# Altium footprint library SGK_DVR_01.PcbLib: 37 footprints (part 3 of 3)
Each footprint in its own frame and in the unit in brackets; x right, y up, seen from the top. Pads: shape width x height; smd on the part's side, far side on the other; paste and mask are expansions set on the pad; w line width, h text height; cw(c..) or ccw(c..) is an arc to the next point about the centre after c.
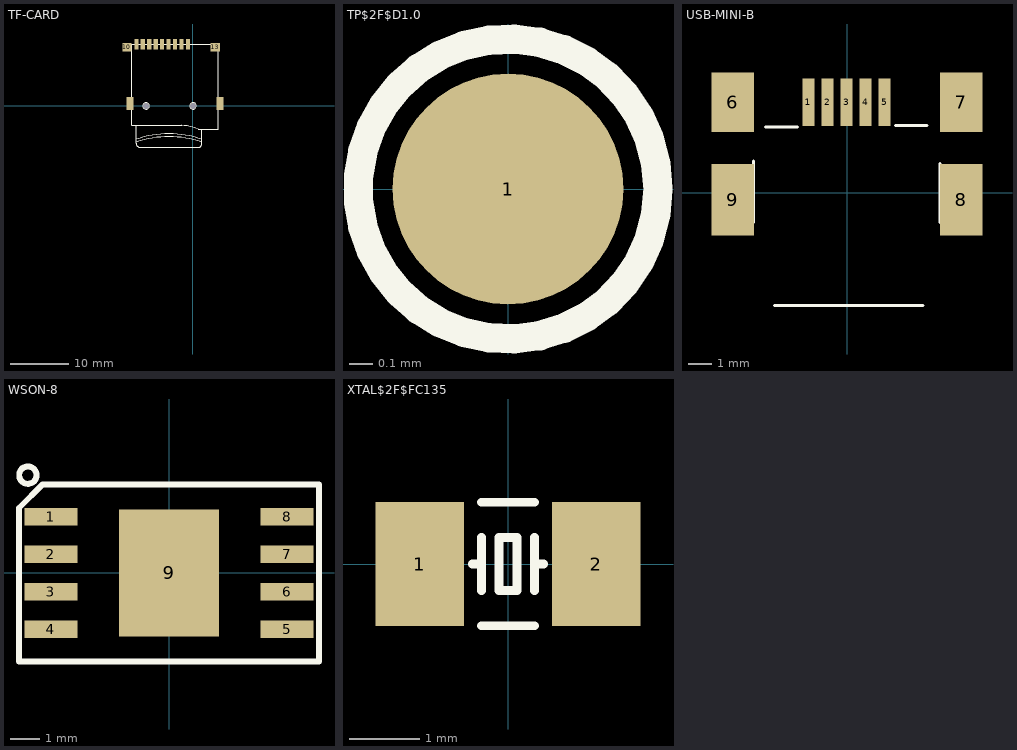
[diagram p2: the footprints below, top view; thin cyan lines are the x and y axes]

## TF-CARD [mm]
pads (15):
  rect 0.7x1.8 smd: 1(-0.85,10.5) 2(-1.95,10.5) 3(-3.05,10.5) 4(-4.15,10.5) 5(-5.25,10.5) 6(-6.35,10.5) 7(-7.45,10.5) 8(-8.55,10.5) 9(-9.65,10.5)
  rect 1.6x1.4 smd: 10(-11.25,10) 13(3.8,10)
  rect 1.2x2.2 smd: 11(-10.7,0.4) 12(4.6,0.4)
  round 1 hole 1: 14(0,0) 15(-8,0)
Top Overlay:
  circle w0.05: c-8,-0.01 r0.539
  circle w0.05: c0,0 r0.546
  lines w0.15: -10.4,10.51 -10.4,-3.3 -1.94,-3.3 ; -10.39,10.53 4.3,10.53 4.3,8.84 ; -9.664,-5.705 cw(c-4.09,-21.533) 1.456,-5.695 ; -9.65,-6.4 ccw(c-9.044,-6.454) -8.99,-7.06 ; -9.65,-6.38 -9.65,-3.3 ; -9.64,-6.17 cw(c-4.085,-22.488) 1.47,-6.17 ; -8.97,-7.06 0.81,-7.06 ; -1.942,-3.3 cw(c-2.478,-11.818) 0.898,-3.979 ; 0.825,-7.055 ccw(c0.921,-6.496) 1.48,-6.4 ; 0.92,-3.98 4.28,-3.98 ; 1.48,-6.38 1.48,-3.98 ; 4.3,-3.98 4.3,10.51

## TP$2F$D1.0 [mm]
pads (1):
  round 1 smd: 1(0,0)
Top Overlay:
  circle w0.127: c0,0 r0.65

## USB-MINI-B [mm]
pads (9):
  rect 0.5x2 smd: 1(-1.617,3.8) 2(-0.817,3.8) 3(-0.017,3.8) 4(0.783,3.8) 5(1.583,3.8)
  rect 1.8x2.5 smd: 6(-4.8,3.8) 7(4.8,3.8)
  rect 1.8x3 smd: 8(4.8,-0.3) 9(-4.8,-0.3)
Top Overlay:
  lines w0.127: -3.923,-1.252 -3.923,1.328 ; -3.422,2.76 -2.082,2.76 ; -3.04,-4.75 3.2,-4.75 ; 2.047,2.81 3.357,2.81 ; 3.906,-1.259 3.906,1.221

## WSON-8 [mm]
pads (9):
  rect 1.8x0.6 smd: 1(-4,1.905) 2(-4,0.635) 3(-4,-0.635) 4(-4,-1.905) 5(4,-1.905) 6(4,-0.635) 7(4,0.635) 8(4,1.905)
  rect 3.4x4.3 smd: 9(0,0)
Top Overlay:
  circle w0.2: c-4.78,3.31 r0.294
  lines w0.2: -5.08,-3 5.08,-3 5.08,3 -4.28,3 -5.08,2.2 -5.08,-3

## XTAL$2F$FC135 [mm]
pads (2):
  rect 1.25x1.75 smd: 1(-1.25,0) 2(1.25,0)
Top Overlay:
  lines w0.127: -0.5,0 -0.375,0 ; -0.375,-0.875 0.375,-0.875 ; -0.375,-0.375 -0.375,0.375 ; -0.375,0.875 0.375,0.875 ; 0.375,-0.375 0.375,0.375 ; 0.375,0 0.5,0 ; -0.125,-0.375 0.125,-0.375 0.125,0.375 -0.125,0.375 -0.125,-0.375